# EAGLE library part SM06B-GHS-TB(LF)(SN) (library SM06B-GHS-TB_LF__SN_)
GHS Series 1.25 mm Pitch Disc. Crimp Wire-to-Wire Connector Check prices <https://pricing.snapeda.com/parts/SM06B-GHS-TB%28LF%29%28SN%29/JST%20Sales/view-part?ref=eda>
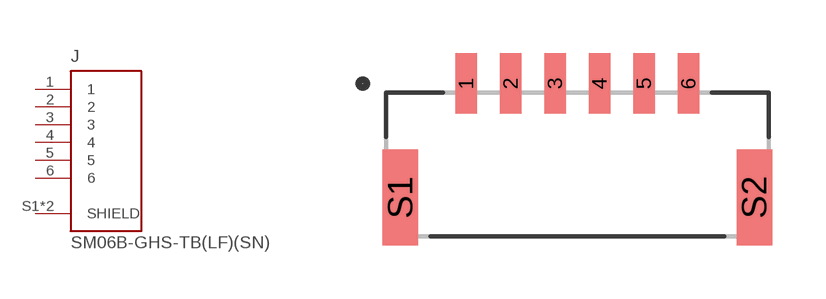
[diagram p0: symbol with the pads of JST_SM06B-GHS-TB(LF)(SN); footprint JST_SM06B-GHS-TB(LF)(SN)]

Designator prefix J

## SM06B-GHS-TB(LF)(SN) (Availability: Warning; Description: Connector Header Surface Mount, Right Angle 6 position 0.049 (1.25mm); MF: JST Sales; MP: SM06B-GHS-TB(LF)(SN); Package: None; Price: None; Purchase-URL: https://pricing.snapeda.com/search/part/SM06B-GHS-TB(LF)(SN)/?ref=eda)  [JST_SM06B-GHS-TB(LF)(SN)]
1  1  pas
2  2  pas
3  3  pas
4  4  pas
5  5  pas
6  6  pas
S1  SHIELD  pas
S2  SHIELD  pas

## Footprint JST_SM06B-GHS-TB(LF)(SN) (pad centres in mm)
smd 0.6 x 1.7: 1 -3.125,1.875; 2 -1.875,1.875; 3 -0.625,1.875; 4 0.625,1.875; 5 1.875,1.875; 6 3.125,1.875
smd 1 x 2.7: S1 -4.975,-1.325; S2 4.975,-1.325